# EAGLE library part PICOBOY_LM4875 (library picoboy)
LM4875
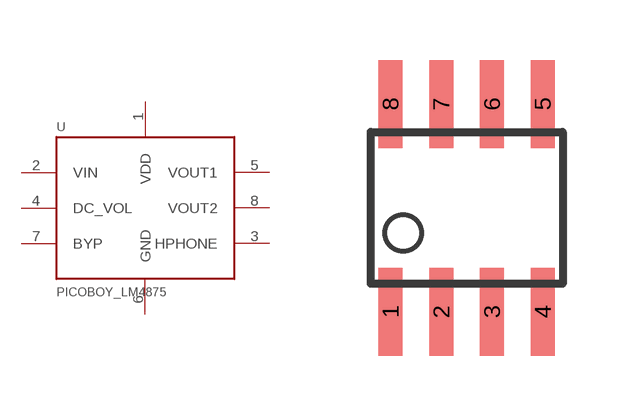
[diagram p0: symbol with the pads of PICOBOY_LM4875; footprint PICOBOY_LM4875]

Designator prefix U

## PICOBOY_LM4875  [PICOBOY_LM4875]
1  VDD  pwr
2  VIN  in
3  HPHONE  in
4  DC_VOL  in
5  VOUT1  out
6  GND  pwr
7  BYP
8  VOUT2  out

## Footprint PICOBOY_LM4875 (pad centres in mm)
LM4875
smd 0.6 x 2.2: 1 -1.905,-2.6; 2 -0.635,-2.6; 3 0.635,-2.6; 4 1.905,-2.6; 5 1.905,2.6; 6 0.635,2.6; 7 -0.635,2.6; 8 -1.905,2.6